# Altium footprint library KNoT_Thing.PcbLib: 36 footprints (part 1 of 3)
Each footprint in its own frame and in the unit in brackets; x right, y up, seen from the top. Pads: shape width x height; smd on the part's side, far side on the other; paste and mask are expansions set on the pad; w line width, h text height; cw(c..) or ccw(c..) is an arc to the next point about the centre after c.
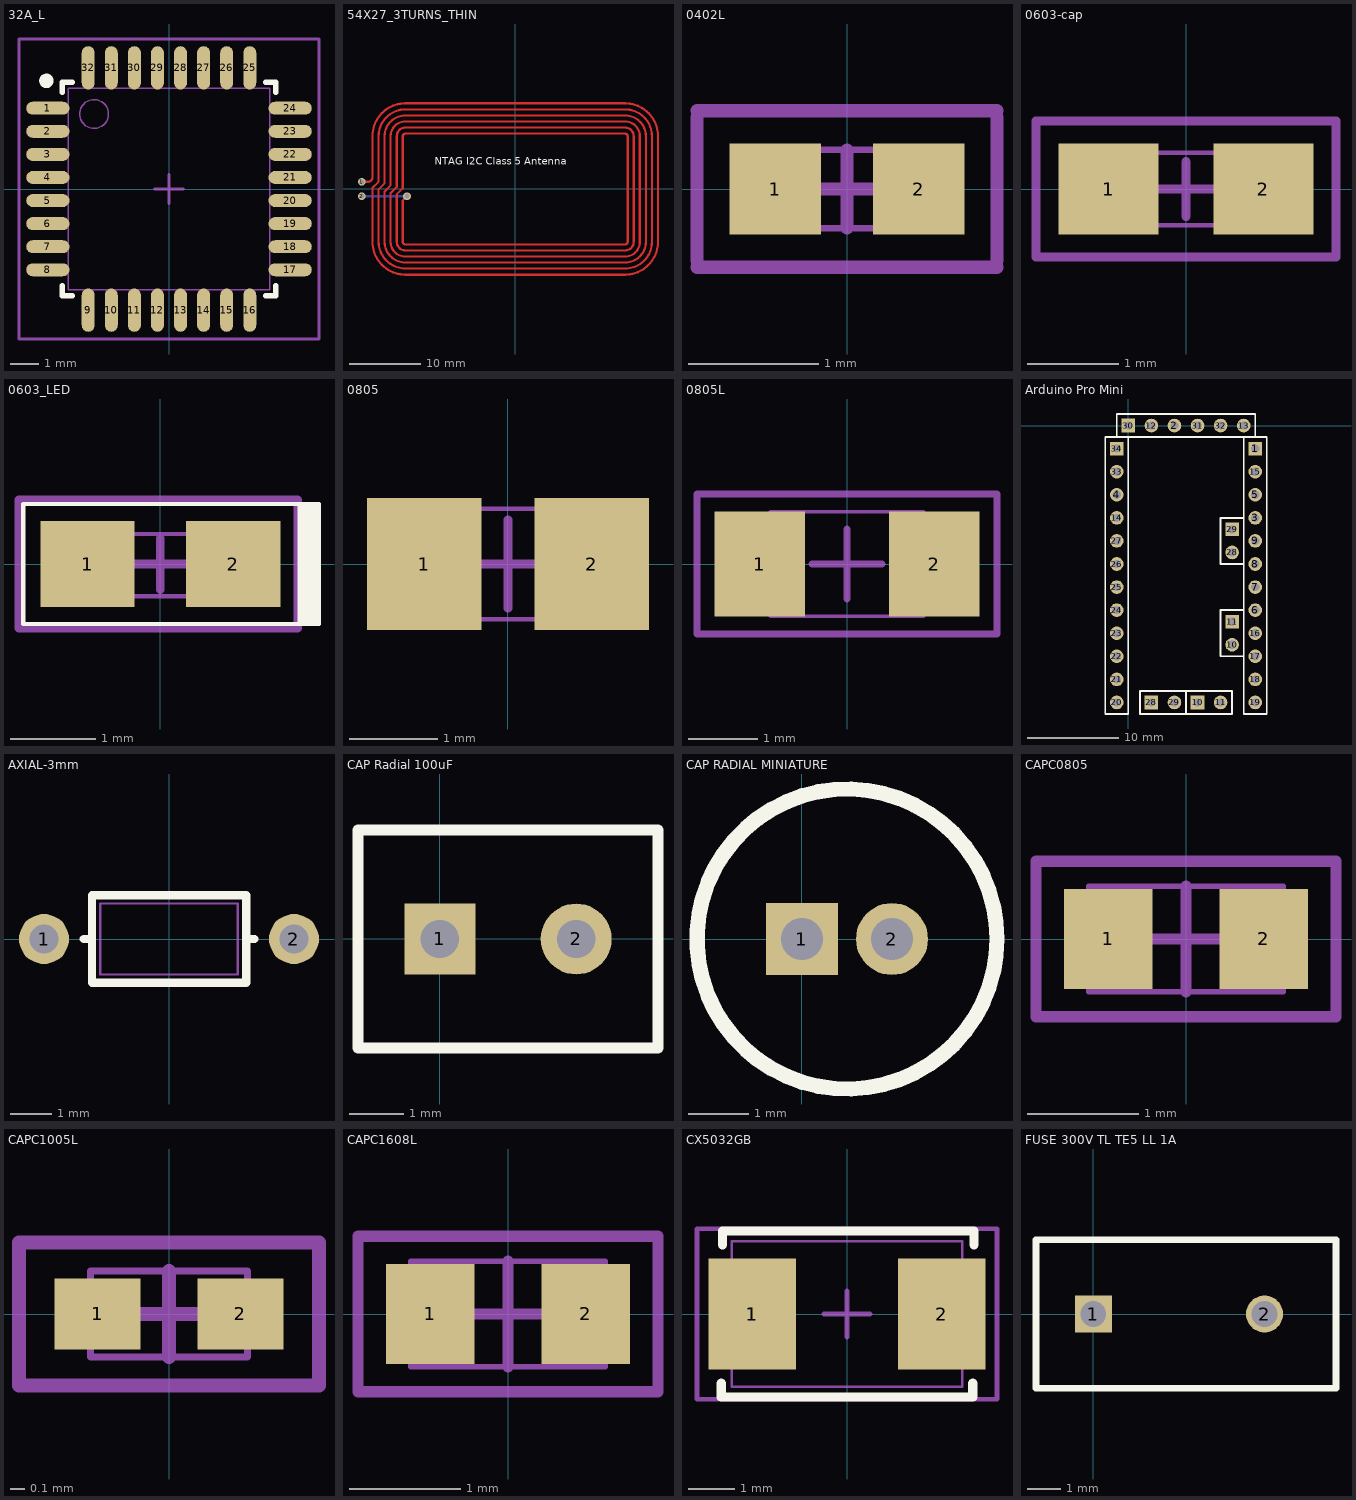
[diagram p0: the footprints below, top view; thin cyan lines are the x and y axes]

## 32A_L [mm] "Thin QFP, 32-Leads, Body 7x7mm, Pitch 0.8mm, IPC High Density"
height 1.2
pads (32):
  oval 1.5x0.45 smd: 1(-4.2,2.8) 2(-4.2,2) 3(-4.2,1.2) 4(-4.2,0.4) 5(-4.2,-0.4) 6(-4.2,-1.2) 7(-4.2,-2) 8(-4.2,-2.8) 17(4.2,-2.8) 18(4.2,-2) 19(4.2,-1.2) 20(4.2,-0.4) 21(4.2,0.4) 22(4.2,1.2) 23(4.2,2) 24(4.2,2.8)
  oval 0.45x1.5 smd: 9(-2.8,-4.2) 10(-2,-4.2) 11(-1.2,-4.2) 12(-0.4,-4.2) 13(0.4,-4.2) 14(1.2,-4.2) 15(2,-4.2) 16(2.8,-4.2) 25(2.8,4.2) 26(2,4.2) 27(1.2,4.2) 28(0.4,4.2) 29(-0.4,4.2) 30(-1.2,4.2) 31(-2,4.2) 32(-2.8,4.2)
Top Overlay:
  circle w0.25: c-4.25,3.75 r0.125
  lines w0.2: -3.7,-3.35 -3.7,-3.7 -3.35,-3.7 ; -3.7,3.35 -3.7,3.7 -3.35,3.7 ; 3.35,-3.7 3.7,-3.7 3.7,-3.35 ; 3.35,3.7 3.7,3.7 3.7,3.35
Mechanical 11:
  circle w0.05: c-2.6,2.6 r0.5
  lines w0.05: -3.5,-3.5 3.5,-3.5 3.5,3.5 -3.5,3.5 -3.5,-3.5
Mechanical 15:
  lines w0.1: -0.5,0 0.5,0 ; 0,-0.5 0,0.5 ; -5.2,-5.2 5.2,-5.2 5.2,5.2 -5.2,5.2 -5.2,-5.2
3D body: height 1.1, standoff 0, extent -4.509,-4.509 4.509,4.509

## 54X27_3TURNS_THIN [mil] "54X27_3TURNS_THIN"
pads (2):
  round 42 hole 28: 1(-847,39.37) 2(-847,-40)
via -597.44,-39.37 diameter 42.01 hole 28
Top Layer:
  lines w12: -847,39.37 -813,39.37 ccw(c-813.3,64.67) -788,64.96 -788,291.34 cw(c-606.95,291.39) -607,472.44 606.3,472.44 cw(c606.3,291.34) 787.4,291.34 787.4,-292 cw(c606.35,-291.95) 606.3,-473 -607,-473 cw(c-607,-292) -788,-292 -788,5.91 -754,39.37 -754,289.37 ; -754,279.53 -754,289.37 ; -607,-439 -591,-439 ; -597,-40 -621,-63 -621,-292 ccw(c-607,-292) -607,-306 606.3,-306 ccw(c606.19,-292.11) 620.08,-292 620.08,291.34 ccw(c606.3,291.34) 606.3,305.12 -607,305.12 ccw(c-607.11,291.23) -621,291.34 -621,3.94 -654,-30 -654,-292 ccw(c-607,-292) -607,-339 606.3,-339 ccw(c606.42,-291.88) 653.54,-292 653.54,291.34 ccw(c606.3,291.34) 606.3,338.58 -607,338.58 ccw(c-606.88,291.46) -654,291.34 -654,11.81 -688,-22 -688,-292 ccw(c-607,-292) -607,-373 606.3,-373 ccw(c606.15,-292.15) 687.01,-292 687.01,291.34 ccw(c606.3,291.34) 606.3,372.05 -607,372.05 ccw(c-607.15,291.19) -688,291.34 -688,19.68 -721,-14 -721,-292 ccw(c-607,-292) -607,-406 606.3,-406 ccw(c606.39,-291.91) 720.47,-292 720.47,291.34 ccw(c606.3,291.34) 606.3,405.51 -607,405.51 ccw(c-606.91,291.43) -721,291.34 -721,31.5 -754,-2 -754,-292 ccw(c-606,-291) -605,-439 -591,-439 ; -754,289.37 -754,291.34 cw(c-606.68,291.66) -607,438.98 606.3,438.98 cw(c606.3,291.34) 753.94,291.34 753.94,-292 cw(c606.62,-291.68) 606.3,-439 -591,-439
Bottom Layer:
  lines w12.01: -847,-40 -598.07,-40
Top Overlay:
  text "NTAG I2C Class 5 Antenna" at -444.88,133.86 h39.37
Top Solder:
  text "Class 5 - 50 pF #01" at -376.97,-178.15 h108.5

## 0402L [mm] "PTC Littel Fuse"
pads (2):
  rect 0.7x0.7 smd: 1(-0.55,0) 2(0.55,0)
Mechanical 11:
  lines w0.05: -0.55,-0.3 -0.55,0.3 0.55,0.3 0.55,-0.3 -0.55,-0.3
Mechanical 15:
  lines w0.1: -1.15,-0.6 1.15,-0.6 ; -1.15,-0.55 -1.15,0.55 ; -1.15,0.6 1.15,0.6 ; -0.525,0 0.525,0 ; 0,-0.3 0,0.3 ; 1.15,-0.55 1.15,0.55
3D body: height 0.6, standoff 0, extent -0.55,-0.3 0.55,0.3

## 0603-cap [mm] "0603 Hermes"
pads (2):
  rect 1.1x1 smd: 1(-0.85,0) 2(0.85,0)
Mechanical 11:
  lines w0.05: -0.8,-0.4 -0.8,0.4 0.8,0.4 0.8,-0.4 -0.8,-0.4
Mechanical 15:
  lines w0.1: -0.525,0 0.525,0 ; 0,-0.3 0,0.3 ; -1.65,-0.75 1.65,-0.75 1.65,0.75 -1.65,0.75 -1.65,-0.75
3D body: height 0.3, standoff 0, extent -0.8,-0.4 0.8,0.4

## 0603_LED [mm] "LED tamanho 0603"
pads (2):
  rect 1.1x1 smd: 1(-0.85,0) 2(0.85,0)
Top Overlay:
  rectangle: 1.6,-0.7 1.85,0.7
  lines w0.05: 1.65,-0.7 1.65,0.7 ; 1.65,-0.7 -1.6,-0.7 -1.6,0.7 1.65,0.7 ; 1.65,-0.7 1.85,-0.7 1.85,0.7 1.65,0.7
Mechanical 11:
  lines w0.05: -0.825,-0.375 0.825,-0.375 0.825,0.35 -0.825,0.35 -0.825,-0.375
Mechanical 15:
  lines w0.1: -0.525,0 0.525,0 ; 0,-0.3 0,0.3 ; -1.65,-0.75 1.6,-0.75 1.6,0.3 1.6,0.75 -1.65,0.75 -1.65,-0.75
3D body: height 0.68, standoff 0, extent -0.825,-0.375 0.825,0.35

## 0805 [mm] "0805 Hermes"
pads (2):
  rect 1.3x1.5 smd: 1(-0.95,0) 2(0.95,0)
Mechanical 11:
  lines w0.05: -1,-0.625 -1,0.625 1,0.625 1,-0.625 -1,-0.625
Mechanical 15:
  lines w0.1: -0.5,0 0.5,0 ; 0,-0.5 0,0.5
3D body: height 0.78, standoff 0, extent -1.007,-0.616 0.993,0.633

## 0805L [mm] "0805 Hermes"
pads (2):
  rect 1.3x1.5 smd: 1(-1.25,0) 2(1.25,0)
Mechanical 11:
  lines w0.05: -1.1,-0.75 -1.1,0.75 1.1,0.75 1.1,-0.75 -1.1,-0.75
Mechanical 15:
  lines w0.1: -0.5,0 0.5,0 ; 0,-0.5 0,0.5 ; 2.15,1 2.15,1 ; 2.15,1 2.15,-1 -2.15,-1 -2.15,1 2.15,1
3D body: height 1.24, standoff 0, extent -1.105,-0.749 1.105,0.75

## Arduino Pro Mini [mm] "Arduino Pro Mini Module"
pads (38):
  rect 1.5x1.5 hole 0.9: 1(13.97,-2.54) 10(7.62,-30.48) 11(11.43,-21.59) 28(2.54,-30.48) 29(11.43,-11.43) 30(0,0) 34(-1.27,-2.54)
  round 1.5 hole 0.9: 2(5.08,0) 3(13.97,-10.16) 4(-1.27,-7.62) 5(13.97,-7.62) 6(13.97,-20.32) 7(13.97,-17.78) 8(13.97,-15.24) 9(13.97,-12.7) 10(11.43,-24.13) 11(10.16,-30.48) 12(2.54,0) 13(12.7,0) 14(-1.27,-10.16) 15(13.97,-5.08) 16(13.97,-22.86) 17(13.97,-25.4) 18(13.97,-27.94) 19(13.97,-30.48) 20(-1.27,-30.48) 21(-1.27,-27.94) 22(-1.27,-25.4) 23(-1.27,-22.86) 24(-1.27,-20.32) 25(-1.27,-17.78) 26(-1.27,-15.24) 27(-1.27,-12.7) 28(11.43,-13.97) 29(5.08,-30.48) 31(7.62,0) 32(10.16,0) 33(-1.27,-5.08)
Top Overlay:
  lines w0.2: 6.35,-31.75 11.43,-31.75 11.43,-29.21 6.35,-29.21 ; 6.35,-31.75 6.35,-29.21 ; 6.35,-31.75 1.27,-31.75 1.27,-29.21 6.35,-29.21 ; 6.35,-31.75 6.35,-29.21 ; -2.54,-31.75 -2.54,-1.27 0,-1.27 0,-3.175 0,-31.75 -2.54,-31.75 ; -1.27,-1.27 13.97,-1.27 13.97,1.27 -1.27,1.27 -1.27,-1.27 ; 10.16,-25.4 10.16,-20.32 12.7,-20.32 12.7,-25.4 10.16,-25.4 ; 10.16,-15.24 12.7,-15.24 12.7,-10.16 10.16,-10.16 10.16,-15.24 ; 12.7,-31.75 15.24,-31.75 15.24,-3.175 15.24,-1.27 12.7,-1.27 12.7,-31.75

## AXIAL-3mm [mm] "Axial Device, Thru-Hole; 2 Leads; 3.3mm in Pin Spacing"
height 1.524
pads (2):
  round 1.2 hole 0.7: 1(-3,0) 2(3,0)
Top Overlay:
  lines w0.2: -1.85,0 -2.05,0 ; 1.85,0 2.05,0 ; -2.05,0 -2.05,0 ; 2.05,0 2.05,0 ; -1.85,-1.05 1.85,-1.05 1.85,1.05 -1.85,1.05 -1.85,-1.05
Mechanical 11:
  lines w0.05: -1.65,-0.85 1.65,-0.85 1.65,0.85 -1.65,0.85 -1.65,-0.85
3D body: height 2.4, standoff -3.8, extent -4.11,-1.203 4.11,1.203

## CAP Radial 100uF [mm]
pads (2):
  rect 1.3x1.3 hole 0.7: 1(0,0)
  round 1.3 hole 0.7: 2(2.5,0)
Top Overlay:
  lines w0.2: -1.5,-2 4,-2 4,2 -1.5,2 -1.5,-2

## CAP RADIAL MINIATURE [mm]
pads (2):
  rect 1.2x1.2 hole 0.7: 1(0,0)
  round 1.2 hole 0.7: 2(1.5,0)
Top Overlay:
  circle w0.254: c0.75,0 r2.5

## CAPC0805 [mm]
pads (2):
  rect 0.8x0.9 smd: 1(-0.7,0) 2(0.7,0)
Mechanical 11:
  lines w0.05: -0.875,-0.475 0.875,-0.475 0.875,0.475 -0.875,0.475 -0.875,-0.475
Mechanical 15:
  lines w0.1: -0.475,0 0.475,0 ; 0,-0.475 0,0.475 ; -1.35,-0.7 1.35,-0.7 1.35,0.7 -1.35,0.7 -1.35,-0.7
3D body: height 0.85, standoff 0, extent -0.875,-0.475 0.875,0.475

## CAPC1005L [mm]
pads (2):
  rect 0.6x0.5 smd: 1(-0.5,0) 2(0.5,0)
Mechanical 11:
  lines w0.05: -0.55,-0.3 -0.55,0.3 0.55,0.3 0.55,-0.3 -0.55,-0.3
Mechanical 15:
  lines w0.1: -0.3,0 0.3,0 ; 0,-0.3 0,0.3 ; -1.05,-0.5 1.05,-0.5 1.05,0.5 -1.05,0.5 -1.05,-0.5
3D body: height 0.6, standoff 0, extent -0.55,-0.3 0.55,0.3

## CAPC1608L [mm]
pads (2):
  rect 0.8x0.9 smd: 1(-0.7,0) 2(0.7,0)
Mechanical 11:
  lines w0.05: -0.875,-0.475 -0.875,0.475 0.875,0.475 0.875,-0.475 -0.875,-0.475
Mechanical 15:
  lines w0.1: -0.475,0 0.475,0 ; 0,-0.475 0,0.475 ; -1.35,-0.7 -1.35,0.7 1.35,0.7 1.35,-0.7 -1.35,-0.7
3D body: height 0.85, standoff 0, extent -0.875,-0.475 0.875,0.475

## CX5032GB [mm] "Quartz Crystal 8MHz"
pads (3):
  rect 1.9x2.4 smd: 1(-2.05,0) 1(-2.05,0) 2(2.05,0)
Top Overlay:
  lines w0.2: -2.725,-1.5 -2.725,-1.8 2.725,-1.8 2.725,-1.5 ; -2.7,1.5 -2.7,1.8 2.75,1.8 2.75,1.5
Mechanical 11:
  lines w0.05: -2.5,-1.575 2.5,-1.575 2.5,1.575 -2.5,1.575 -2.5,-1.575
Mechanical 15:
  lines w0.1: -0.5,0 0.5,0 ; 0,-0.5 0,0.5 ; -3.25,-1.85 3.25,-1.85 3.25,1.85 -3.25,1.85 -3.25,-1.85
3D body: height 1.3, standoff 0, extent -2.5,-1.6 2.5,1.6

## FUSE 300V TL TE5 LL 1A [mm] "Littelfuse Inc"
pads (2):
  rect 1.1x1.1 hole 0.762: 1(0,0)
  round 1.1 hole 0.762: 2(5.08,0)
Top Overlay:
  lines w0.2: -1.7,-2.2 7.2,-2.2 7.2,2.2 -1.7,2.2 -1.7,-2.2